# EAGLE library part HM-10 (library HM-10_BLE)
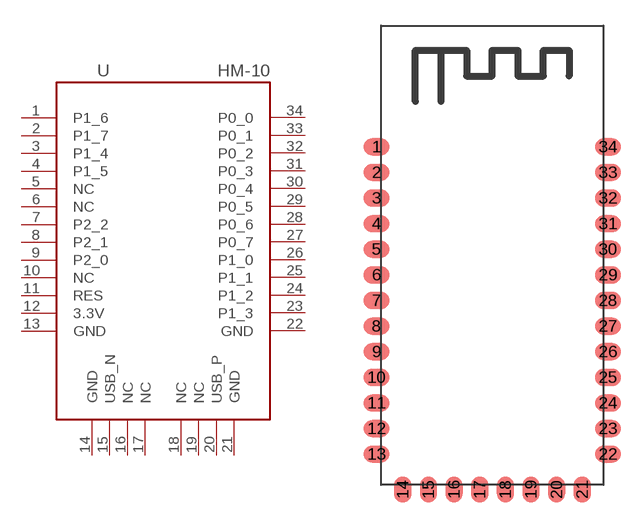
[diagram p0: symbol with the pads of HM-10; footprint HM-10]

Designator prefix U

## HM-10  [HM-10]
1  P1_6
2  P1_7
3  P1_4
4  P1_5
5  NC
6  NC
7  P2_2
8  P2_1
9  P2_0
10  NC
11  RES
12  3.3V
13  GND
14  GND
15  USB_N
16  NC
17  NC
18  NC
19  NC
20  USB_P
21  GND
22  GND
23  P1_3
24  P1_2
25  P1_1
26  P1_0
27  P0_7
28  P0_6
29  P0_5
30  P0_4
31  P0_3
32  P0_2
33  P0_1
34  P0_0

## Footprint HM-10 (pad centres in mm)
smd 1.5 x 1: 1 -6.77,6.35; 2 -6.77,4.85; 3 -6.77,3.35; 4 -6.77,1.85; 5 -6.77,0.35; 6 -6.77,-1.15; 7 -6.77,-2.65; 8 -6.77,-4.15; 9 -6.77,-5.65; 10 -6.77,-7.15; 11 -6.77,-8.65; 12 -6.77,-10.15; 13 -6.77,-11.65; 22 6.77,-11.65; 23 6.77,-10.15; 24 6.77,-8.65; 25 6.77,-7.15; 26 6.77,-5.65; 27 6.77,-4.15; 28 6.77,-2.65; 29 6.77,-1.15; 30 6.77,0.35; 31 6.77,1.85; 32 6.77,3.35; 33 6.77,4.85; 34 6.77,6.35
smd 1 x 1.5: 14 -5.23,-13.72; 15 -3.73,-13.72; 16 -2.23,-13.72; 17 -0.73,-13.72; 18 0.77,-13.72; 19 2.27,-13.72; 20 3.77,-13.72; 21 5.27,-13.72